# EAGLE library part FE08-1 (library _pinsocket)
FEMALE HEADER
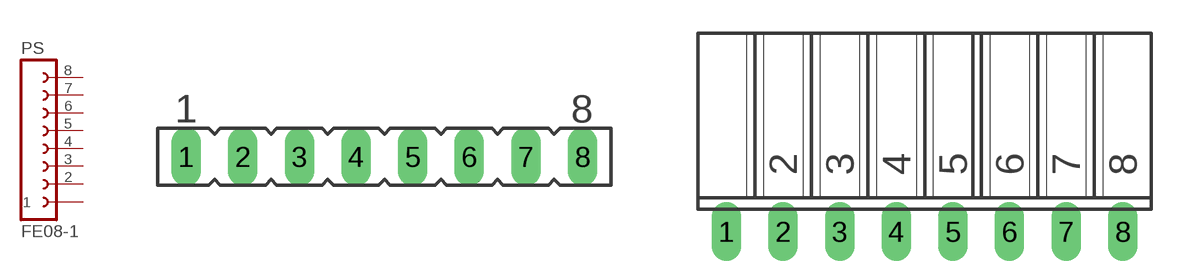
[diagram p3: symbol with the pads of 1X8-I; footprints 1X8-I, 1X8-L]

Designator prefix PS

## FE08-1I (OC_FARNELL: unknown; OC_NEWARK: unknown)  [1X8-I]
1  1  pas
2  2  pas
3  3  pas
4  4  pas
5  5  pas
6  6  pas
7  7  pas
8  8  pas

## FE08-1L  [1X8-L]
Pads as for 1X8-I

## Footprint 1X8-I (pad centres in mm)
FEMALE HEADER
drill 0.813 long: 1 -8.89,0; 2 -6.35,0; 3 -3.81,0; 4 -1.27,0; 5 1.27,0; 6 3.81,0; 7 6.35,0; 8 8.89,0

## Footprint 1X8-L (pad centres in mm)
FEMALE HEADER
drill 0.813 long: 1 -8.89,0; 2 -6.35,0; 3 -3.81,0; 4 -1.27,0; 5 1.27,0; 6 3.81,0; 7 6.35,0; 8 8.89,0